# Altium footprint library PCB_Battery.PcbLib: 2 footprints
Each footprint in its own frame and in the unit in brackets; x right, y up, seen from the top. Pads: shape width x height; smd on the part's side, far side on the other; paste and mask are expansions set on the pad; w line width, h text height; cw(c..) or ccw(c..) is an arc to the next point about the centre after c.
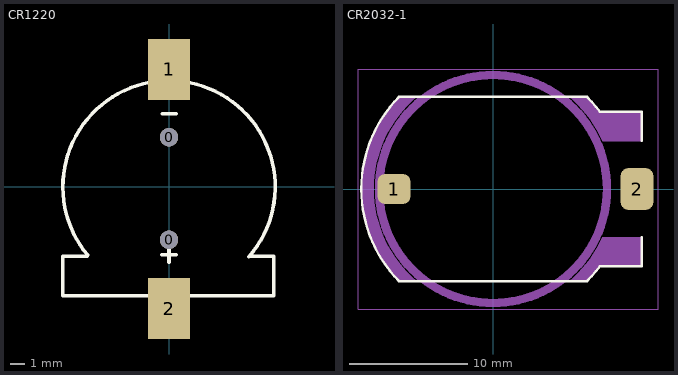
[diagram p0: the footprints below, top view; thin cyan lines are the x and y axes]

## CR1220 [mm]
pads (4):
  round 1.3 hole 1.3: 0(0,-3.75) 0(0,3.5)
  rect 3x4.3 smd: 1(0,8.289) 2(0,-8.611)
Top Overlay:
  lines w0.254: -5.789,-4.911 -7.5,-4.911 -7.5,-7.711 7.4,-7.711 7.4,-4.911 5.687,-4.911 ; -5.731,-4.852 cw(c0,-0.011) 5.646,-4.951 ; -0.508,-4.811 0.508,-4.811 ; -0.491,5.164 0.525,5.164 ; 0,-5.319 0,-4.303
3D body "User Library-Battery Holder for CR1220 SMD.STEP": height 4.28, standoff -0.47, extent -7.434,-9.527 7.315,9.273

## CR2032-1 [mil]
pads (2):
  rrect50% 110x100 smd: 1(-330,0)
  rrect50% 110x140 smd: 2(480,0)
Top Overlay:
  lines w8: 495.61,-161.42 495.61,-256.94 355.95,-256.94 cw(c0,0) 313.76,-307.01 -313.76,-307.01 cw(c0,0) -313.76,307.01 313.76,307.01 cw(c0,0) 355.92,256.94 495.61,256.94 495.61,161.42
Mechanical 13:
  circle w28: c0,0 r380
  region: 313.76,-307.01 319.49,-301.15 330.5,-289.02 341.06,-276.49 351.14,-263.57 355.93,-256.93 355.95,-256.94 495.61,-256.94 495.61,-161.42 365.54,-161.42 365.54,-161.44 360.75,-171.88 350.28,-192.33 338.65,-212.14 325.9,-231.25 312.07,-249.6 297.21,-267.12 281.37,-283.76 264.59,-299.46 255.88,-306.94 255.88,-307.01
  region: -313.76,-307.01 -325.66,-294.85 -347.49,-268.77 -367.25,-241.08 -384.8,-211.94 -400.05,-181.53 -412.89,-150.03 -423.26,-117.64 -431.1,-84.53 -436.34,-50.92 -438.98,-17.01 -438.98,17.01 -436.34,50.92 -431.1,84.53 -423.26,117.64 -412.89,150.03 -400.05,181.53 -384.8,211.94 -367.25,241.08 -347.49,268.77 -325.65,294.85 -313.76,307.01 -255.88,307.01 -255.88,306.94 -269.07,295.44 -293.88,270.77 -316.44,244.03 -336.58,215.41 -354.13,185.14 -368.97,153.46 -380.98,120.59 -390.06,86.8 -396.16,52.35 -399.22,17.49 -399.22,-17.49 -396.16,-52.35 -390.06,-86.8 -380.98,-120.59 -368.97,-153.46 -354.13,-185.14 -336.58,-215.41 -316.44,-244.03 -293.88,-270.77 -269.07,-295.44 -255.88,-306.94 -255.88,-307.01
  region: 365.54,161.44 360.75,171.88 350.28,192.33 338.65,212.14 325.9,231.25 312.07,249.6 297.21,267.12 281.37,283.76 264.59,299.46 255.88,306.94 255.88,306.87 313.76,306.87 313.76,307.01 319.49,301.16 330.5,289.03 341.05,276.5 351.13,263.58 355.92,256.94 495.61,256.94 495.61,161.42
  lines w2: -255.88,-306.94 cw(c0,0) -255.88,306.94 ; 255.88,-306.94 ccw(c0,0) 365.54,-161.44 ; 255.88,306.87 313.76,306.87 ; 255.88,306.94 cw(c0,0) 365.54,161.44 ; 255.88,307.01 -313.76,307.01 ccw(c0,0) -313.76,-307.01 255.88,-307.01 313.76,-307.01 ccw(c0,0) 355.93,-256.93 495.61,-256.94 495.61,-161.42 365.54,-161.42 ; 313.76,307.01 cw(c0,0) 355.92,256.94 495.61,256.94 495.61,161.42 365.5,161.42
T-Component:
  lines w2: -450,-400 -450,400 550,400 550,-400 -450,-400
3D body "User Library-BLP2032M-G.STEP": height 191.34, standoff 0, extent -425.12,-297.24 510.32,297.25